# Altium integrated library Relay.IntLib: 16 symbols
Pins are listed as number, name and electrical type; pins without a type are passive.

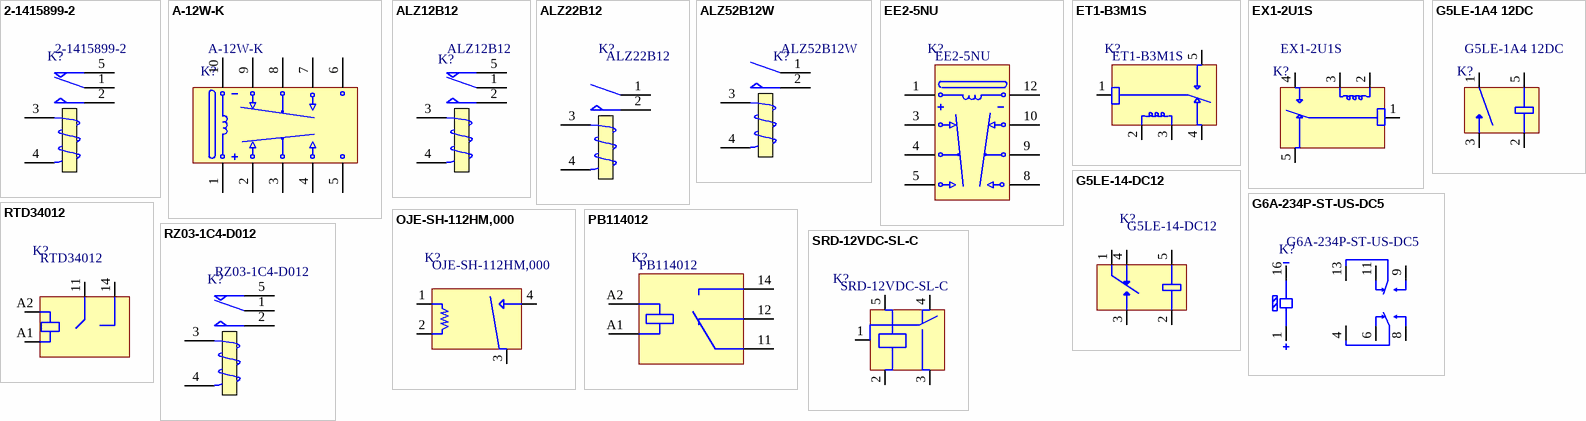
[diagram p0: symbols 2-1415899-2 to SRD-12VDC-SL-C]

## 2-1415899-2
designator K?  MPN: 2-1415899-2  (hidden comment: *)
SPDT PCB Mount Non-Latching Relay Through Hole,  12V dc; MFT: TE Connectivity; RATING: 12Vdc; VALUE: 2-1415899-2; TYPE: TH; LOAD: *
footprint 2-1415899-2
pins: 1 COM, 2 NO, 3 T1, 4 T2, 5 NC

## A-12W-K
designator K?  MPN: A-12W-K  (hidden comment: *)
Low Signal Relays - PCB Mini Signal 12VDC; MFT: Fujitsu; VALUE: A-12W-K; TYPE: Through Hole
footprint A-12W-K
pins: 1, 2, 3, 4, 5, 6, 7, 8, 9, 10

## ALZ12B12
designator K?  MPN: ALZ12B12
General Purpose Relays 16A 12VDC SPDT CLASS B; MFT: Panasonic Industrial Devices; VALUE: ALZ12B12; TYPE: Through Hole
footprint ALZ12B12 (custom)
pins: 1 COM, 2 NO, 3 T1, 4 T2, 5 NC

## ALZ22B12
designator K?  MPN: ALZ22B12  (hidden comment: *)
RELAY GEN PURPOSE SPST 16A 12V; MFT: Panasonic Electric Works; VALUE: ALZ22B12; TYPE: Through Hole
footprint ALZ22B12
pins: 1 COM, 2 NO, 3 T1, 4 T2

## ALZ52B12W
designator K?  MPN: ALZ52B12W  (hidden comment: *)
RELAY GEN PURPOSE SPST 16A 12V; MFT: Panasonic Electric Works; VALUE: ALZ52B12W; TYPE: Through Hole
footprint ALZ52B12W
pins: 1 COM, 2 NO, 3 T1, 4 T2

## EE2-5NU
designator K?  value EE2-5NU  (hidden comment: *)
RELAY GEN PURPOSE DPDT 2A 5V; MFT: KEMET; MPN: EE2-5NU; LOAD: *; TYPE: SMD; RATING: *
footprint EE2-5NU
pins: 1, 3, 4, 5, 8, 9, 10, 12

## ET1-B3M1S
designator K?  MPN: ET1-B3M1S  (hidden comment: *)
Automotive Relays 1 FORM C SEALED; MFT: KEMET NEC-Tokin; VALUE: ET1-B3M1S; TYPE: Through Hole
footprint ET1-B3M1S
pins: 1, 2, 3, 4, 5

## EX1-2U1S
designator K?  value EX1-2U1S  (hidden comment: *)
Automotive Relays AUTO RELAY PC; MFT: KEMET NEC-Tokin; MPN: EX1-2U1S; TYPE: Through Hole
footprint EX1-2U1S
pins: 1, 2, 3, 4, 5

## G5LE-1A4 12DC
designator K?  MPN: G5LE-1A4 12DC  (hidden comment: *)
SPST-NO PCB Mount Non-Latching Relay Solder, 12V dc; MFT: Omron; VALUE: G5LE-1A4 12DC; TYPE: Through Hole
footprint G5LE-1A4 12DC
pins: 1, 2, 3, 5

## G5LE-14-DC12
designator K?  MPN: G5LE-14-DC12  (hidden comment: *)
General Purpose Relays Power PCB Relay SPDT Sealed 12VDC; VALUE: G5LE-14-DC12; MFT: Omron Electronics; TYPE: Through Hole
footprint G5LE-14-DC12
pins: 1, 2, 3, 4, 5

## G6A-234P-ST-US-DC5
designator K?  MPN: G6A-234P-ST-US-DC5  (hidden comment: *)
Low Signal Relays - PCB ThruHole Sealed 1A DPDT 5VDC 200mW; MFT: Omron Electronics; VALUE: G6A-234P-ST-US-DC5; TYPE: Through Hole
footprint G6A-234P-ST-US DC5
pins: 1, 4, 6, 8, 9, 11, 13, 16

## OJE-SH-112HM,000
designator K?  MPN: OJE-SH-112HM,000  (hidden comment: *)
General Purpose Relays SPST 10Amps 12VDC; VALUE: OJE-SH-112HM,000; MFT: TE Connectivity / OEG; TYPE: Through Hole
footprint OJE-SH-112HM,000
pins: 1, 2, 3, 4

## PB114012
designator K?  MPN: PB114012  (hidden comment: *)
RELAY GEN PURPOSE SPDT 10A 12V; MFT: TE Connectivity Potter & Brumfield Relays; VALUE: PB114012; TYPE: Through Hole
footprint PB114012
pins: 11, 12, 14, A1, A2

## RTD34012
designator K?  MPN: RTD34012  (hidden comment: *)
RELAY GEN PURPOSE SPST 16A 12V; MFT: TE Connectivity Potter & Brumfield Relays; VALUE: RTD34012; TYPE: Through Hole
footprint RTD34012
pins: 11, 14, A1, A2

## RZ03-1C4-D012
designator K?  MPN: RZ03-1C4-D012  (hidden comment: *)
RELAY GEN PURPOSE SPDT 16A 12V; MFT: TE Connectivity Potter & Brumfield Relays; RATING: 16A 12V; VALUE: RZ03-1C4-D012; TYPE: TH; LOAD: *
footprint RZ03-1C4-D012
pins: 1 COM, 2 NO, 3 T1, 4 T2, 5 NC

## SRD-12VDC-SL-C
designator K?  MPN: SRD-12VDC-SL-C  (hidden comment: *)
Relay; MFT: SONGLE; VALUE: SRD-12VDC-SL-C; TYPE: Through-Hole
footprint SRD-12VDC-SL-C
pins: 1, 2, 3, 4, 5